# EAGLE library part INA219B (library KW2)
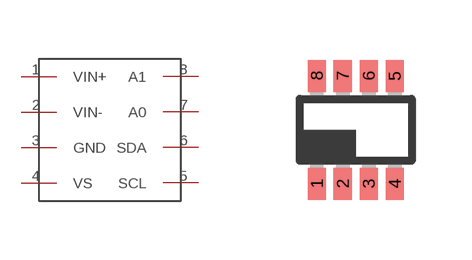
[diagram p17: symbol with the pads of DCN-R-PDSO-G8; footprint DCN-R-PDSO-G8]

Designator prefix -

## INA219B (MFGN: Texas Instruments; MFGP: INA219B)  [DCN-R-PDSO-G8]
1  VIN+
2  VIN-
3  GND
4  VS
5  SCL
6  SDA
7  A0
8  A1

## Footprint DCN-R-PDSO-G8 (pad centres in mm)
DCN (R-PDSO-G8) PLASTIC SMALL-OUTLINE PACKAGE (DIE DOWN) Source: tps62120.pdf (www.ti.com)
smd 0.45 x 0.8: 1 -0.975,-1.35; 2 -0.325,-1.35; 3 0.325,-1.35; 4 0.975,-1.35; 5 0.975,1.35; 6 0.325,1.35; 7 -0.325,1.35; 8 -0.975,1.35